# Altium footprint library Terminal_Blocks_Sprint Clamp PCB_5.08mm.PcbLib: 11 footprints
Each footprint in its own frame and in the unit in brackets; x right, y up, seen from the top. Pads: shape width x height; smd on the part's side, far side on the other; paste and mask are expansions set on the pad; w line width, h text height; cw(c..) or ccw(c..) is an arc to the next point about the centre after c.
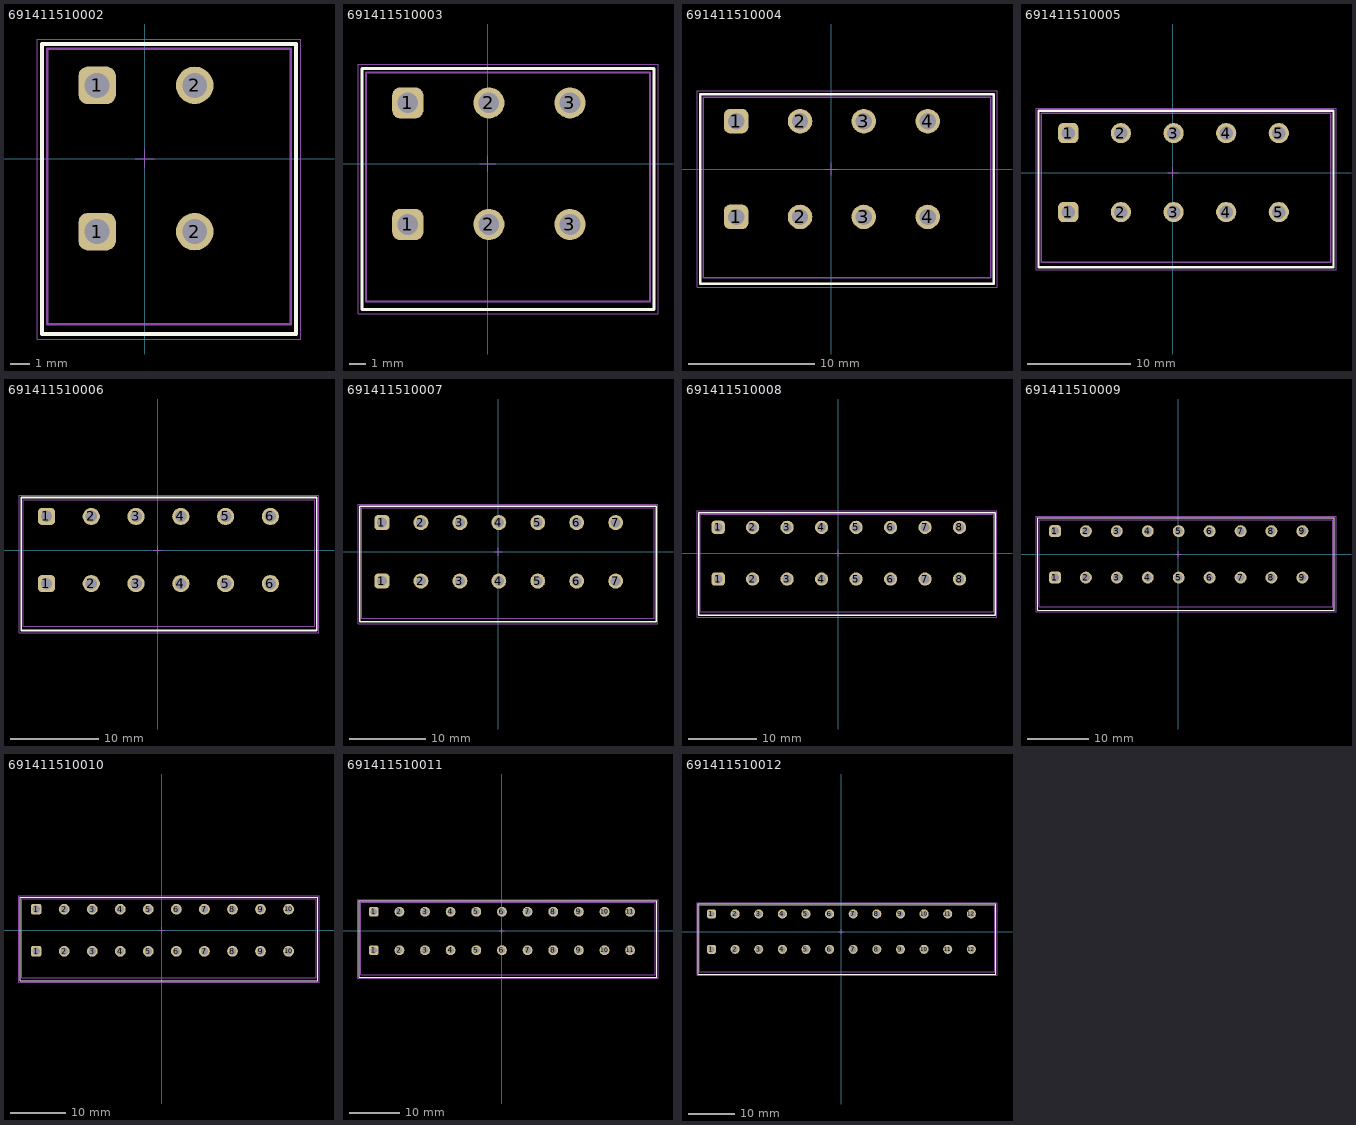
[diagram p0: the footprints below, top view; thin cyan lines are the x and y axes]

## 691411510002 [mm] "5.08 mm Screwless Horizontal Entry, 2p"
height 13.9
pads (4):
  rrect50% 1.95x1.95 hole 1.3: 1(-2.47,-3.81) 1(-2.47,3.81)
  round 1.95 hole 1.3: 2(2.61,-3.81) 2(2.61,3.81)
Top Overlay:
  lines w0.203: -5.334,-9.144 7.874,-9.144 7.874,5.969 -5.334,5.969 -5.334,-9.144
Top Designator:
  text ".Designator" at -7.498,-0.5 h1.5
Top Component Outline:
  lines w0.05: -5.588,-9.398 8.128,-9.398 8.128,6.223 -5.588,6.223 -5.588,-9.398
Top 3D Body:
  lines w0.127: -5.08,-8.636 7.62,-8.636 7.62,5.715 -5.08,5.715 -5.08,-8.636
Top Courtyard:
  lines w0.127: -5.08,-8.636 7.62,-8.636 7.62,5.715 -5.08,5.715 -5.08,-8.636
Top Component Center:
  lines w0.05: -0.5,0 0.5,0 ; 0,-0.5 0,0.5
3D body "db142r-508-2p.stp": height 13.6, standoff -3.5, extent -5.08,-8.637 7.62,5.589

## 691411510003 [mm] "5.08 mm Screwless Horizontal Entry, 3p"
height 13.9
pads (6):
  rrect50% 1.95x1.95 hole 1.3: 1(-5.01,-3.81) 1(-5.01,3.81)
  round 1.95 hole 1.3: 2(0.07,-3.81) 2(0.07,3.81) 3(5.15,-3.81) 3(5.15,3.81)
Top Overlay:
  lines w0.203: -7.874,-9.144 -7.874,5.969 10.414,5.969 10.414,-9.144 -7.874,-9.144
Top Designator:
  text ".Designator" at -7.498,-0.5 h1.5
Top Component Outline:
  lines w0.05: -8.128,-9.398 -8.128,6.223 10.668,6.223 10.668,-9.398 -8.128,-9.398
Top 3D Body:
  lines w0.127: -7.62,-8.636 -7.62,5.715 10.16,5.715 10.16,-8.636 -7.62,-8.636
Top Courtyard:
  lines w0.127: -7.62,-8.636 -7.62,5.715 10.16,5.715 10.16,-8.636 -7.62,-8.636
Top Component Center:
  lines w0.05: -0.5,0 0.5,0 ; 0,-0.5 0,0.5
3D body "db142r-508-3p.stp": height 13.6, standoff -3.5, extent -7.62,-8.637 10.16,5.589

## 691411510004 [mm] "5.08 mm Screwless Horizontal Entry, 4p"
height 13.9
pads (8):
  rrect50% 1.95x1.95 hole 1.3: 1(-7.55,-3.81) 1(-7.55,3.81)
  round 1.95 hole 1.3: 2(-2.47,-3.81) 2(-2.47,3.81) 3(2.61,-3.81) 3(2.61,3.81) 4(7.69,-3.81) 4(7.69,3.81)
Top Overlay:
  lines w0.203: -10.414,-9.144 12.954,-9.144 12.954,5.969 -10.414,5.969 -10.414,-9.144
Top Designator:
  text ".Designator" at -7.498,-0.5 h1.5
Top Component Outline:
  lines w0.05: -10.668,-9.398 13.208,-9.398 13.208,6.223 -10.668,6.223 -10.668,-9.398
Top 3D Body:
  lines w0.127: -10.16,-8.636 12.7,-8.636 12.7,5.715 -10.16,5.715 -10.16,-8.636
Top Courtyard:
  lines w0.127: -10.16,-8.636 12.7,-8.636 12.7,5.715 -10.16,5.715 -10.16,-8.636
Top Component Center:
  lines w0.05: -0.5,0 0.5,0 ; 0,-0.5 0,0.5
3D body "db142r-508-4p.stp": height 13.6, standoff -3.5, extent -10.16,-8.637 12.7,5.589

## 691411510005 [mm] "5.08 mm Screwless Horizontal Entry, 5p"
height 13.9
pads (10):
  rrect50% 1.95x1.95 hole 1.3: 1(-10.09,-3.81) 1(-10.09,3.81)
  round 1.95 hole 1.3: 2(-5.01,-3.81) 2(-5.01,3.81) 3(0.07,-3.81) 3(0.07,3.81) 4(5.15,-3.81) 4(5.15,3.81) 5(10.23,-3.81) 5(10.23,3.81)
Top Overlay:
  lines w0.203: -12.954,-9.144 -12.954,5.969 15.494,5.969 15.494,-9.144 -12.954,-9.144
Top Designator:
  text ".Designator" at -7.498,-0.5 h1.5
Top Component Outline:
  lines w0.05: -13.208,-9.398 -13.208,6.223 15.748,6.223 15.748,-9.398 -13.208,-9.398
Top 3D Body:
  lines w0.127: -12.7,-8.636 -12.7,5.715 15.24,5.715 15.24,-8.636 -12.7,-8.636
Top Courtyard:
  lines w0.127: -12.7,-8.636 -12.7,5.715 15.24,5.715 15.24,-8.636 -12.7,-8.636
Top Component Center:
  lines w0.05: -0.5,0 0.5,0 ; 0,-0.5 0,0.5
3D body "db142r-508-5p.stp": height 13.6, standoff -3.5, extent -12.7,-8.637 15.24,5.589

## 691411510006 [mm] "5.08 mm Screwless Horizontal Entry, 6p"
height 13.9
pads (12):
  rrect50% 1.95x1.95 hole 1.3: 1(-12.63,-3.81) 1(-12.63,3.81)
  round 1.95 hole 1.3: 2(-7.55,-3.81) 2(-7.55,3.81) 3(-2.47,-3.81) 3(-2.47,3.81) 4(2.61,-3.81) 4(2.61,3.81) 5(7.69,-3.81) 5(7.69,3.81) 6(12.77,-3.81) 6(12.77,3.81)
Top Overlay:
  lines w0.203: -15.494,-9.144 -15.494,5.969 18.034,5.969 18.034,-9.144 -15.494,-9.144
Top Designator:
  text ".Designator" at -7.498,-0.5 h1.5
Top Component Outline:
  lines w0.05: -15.748,-9.398 -15.748,6.223 18.288,6.223 18.288,-9.398 -15.748,-9.398
Top 3D Body:
  lines w0.127: -15.24,-8.636 -15.24,5.715 17.78,5.715 17.78,-8.636 -15.24,-8.636
Top Courtyard:
  lines w0.127: -15.24,-8.636 -15.24,5.715 17.78,5.715 17.78,-8.636 -15.24,-8.636
Top Component Center:
  lines w0.05: -0.5,0 0.5,0 ; 0,-0.5 0,0.5
3D body "db142r-508-6p.stp": height 13.6, standoff -3.5, extent -15.24,-8.637 17.78,5.589

## 691411510007 [mm] "5.08 mm Screwless Horizontal Entry, 7p"
height 13.9
pads (14):
  rrect50% 1.95x1.95 hole 1.3: 1(-15.17,-3.81) 1(-15.17,3.81)
  round 1.95 hole 1.3: 2(-10.09,-3.81) 2(-10.09,3.81) 3(-5.01,-3.81) 3(-5.01,3.81) 4(0.07,-3.81) 4(0.07,3.81) 5(5.15,-3.81) 5(5.15,3.81) 6(10.23,-3.81) 6(10.23,3.81) 7(15.31,-3.81) 7(15.31,3.81)
Top Overlay:
  lines w0.203: -18.034,-9.144 -18.034,5.969 20.574,5.969 20.574,-9.144 -18.034,-9.144
Top Designator:
  text ".Designator" at -7.498,-0.5 h1.5
Top Component Outline:
  lines w0.05: -18.288,-9.398 -18.288,6.223 20.828,6.223 20.828,-9.398 -18.288,-9.398
Top 3D Body:
  lines w0.127: -17.78,-8.636 -17.78,5.715 20.32,5.715 20.32,-8.636 -17.78,-8.636
Top Courtyard:
  lines w0.127: -17.78,-8.636 -17.78,5.715 20.32,5.715 20.32,-8.636 -17.78,-8.636
Top Component Center:
  lines w0.05: -0.5,0 0.5,0 ; 0,-0.5 0,0.5
3D body "db142r-508-7p.stp": height 13.6, standoff -3.5, extent -17.78,-8.637 20.32,5.589

## 691411510008 [mm] "5.08 mm Screwless Horizontal Entry, 8p"
height 13.9
pads (16):
  rrect50% 1.95x1.95 hole 1.3: 1(-17.71,-3.81) 1(-17.71,3.81)
  round 1.95 hole 1.3: 2(-12.63,-3.81) 2(-12.63,3.81) 3(-7.55,-3.81) 3(-7.55,3.81) 4(-2.47,-3.81) 4(-2.47,3.81) 5(2.61,-3.81) 5(2.61,3.81) 6(7.69,-3.81) 6(7.69,3.81) 7(12.77,-3.81) 7(12.77,3.81) 8(17.85,-3.81) 8(17.85,3.81)
Top Overlay:
  lines w0.203: -20.574,-9.144 -20.574,5.969 23.114,5.969 23.114,-9.144 -20.574,-9.144
Top Designator:
  text ".Designator" at -7.498,-0.5 h1.5
Top Component Outline:
  lines w0.05: -20.828,-9.398 -20.828,6.223 23.368,6.223 23.368,-9.398 -20.828,-9.398
Top 3D Body:
  lines w0.127: -20.32,-8.636 -20.32,5.715 22.86,5.715 22.86,-8.636 -20.32,-8.636
Top Courtyard:
  lines w0.127: -20.32,-8.636 -20.32,5.715 22.86,5.715 22.86,-8.636 -20.32,-8.636
Top Component Center:
  lines w0.05: -0.5,0 0.5,0 ; 0,-0.5 0,0.5
3D body "db142r-508-8p.stp": height 13.6, standoff -3.5, extent -20.32,-8.637 22.86,5.589

## 691411510009 [mm] "5.08 mm Screwless Horizontal Entry, 9p"
height 13.9
pads (18):
  rrect50% 1.95x1.95 hole 1.3: 1(-20.25,-3.81) 1(-20.25,3.81)
  round 1.95 hole 1.3: 2(-15.17,-3.81) 2(-15.17,3.81) 3(-10.09,-3.81) 3(-10.09,3.81) 4(-5.01,-3.81) 4(-5.01,3.81) 5(0.07,-3.81) 5(0.07,3.81) 6(5.15,-3.81) 6(5.15,3.81) 7(10.23,-3.81) 7(10.23,3.81) 8(15.31,-3.81) 8(15.31,3.81) 9(20.39,-3.81) 9(20.39,3.81)
Top Overlay:
  lines w0.203: -23.114,-9.144 25.654,-9.144 25.654,5.969 -23.114,5.969 -23.114,-9.144
Top Designator:
  text ".Designator" at -7.498,-0.5 h1.5
Top Component Outline:
  lines w0.05: -23.368,-9.398 25.908,-9.398 25.908,6.223 -23.368,6.223 -23.368,-9.398
Top 3D Body:
  lines w0.127: -22.86,-8.636 25.4,-8.636 25.4,5.715 -22.86,5.715 -22.86,-8.636
Top Courtyard:
  lines w0.127: -22.86,-8.636 25.4,-8.636 25.4,5.715 -22.86,5.715 -22.86,-8.636
Top Component Center:
  lines w0.05: -0.5,0 0.5,0 ; 0,-0.5 0,0.5
3D body "db142r-508-9p.stp": height 13.6, standoff -3.5, extent -22.86,-8.637 25.4,5.589

## 691411510010 [mm] "5.08 mm Screwless Horizontal Entry, 10p"
height 13.9
pads (20):
  rrect50% 1.95x1.95 hole 1.3: 1(-22.79,-3.81) 1(-22.79,3.81)
  round 1.95 hole 1.3: 2(-17.71,-3.81) 2(-17.71,3.81) 3(-12.63,-3.81) 3(-12.63,3.81) 4(-7.55,-3.81) 4(-7.55,3.81) 5(-2.47,-3.81) 5(-2.47,3.81) 6(2.61,-3.81) 6(2.61,3.81) 7(7.69,-3.81) 7(7.69,3.81) 8(12.77,-3.81) 8(12.77,3.81) 9(17.85,-3.81) 9(17.85,3.81) 10(22.93,-3.81) 10(22.93,3.81)
Top Overlay:
  lines w0.203: -25.654,-9.144 -25.654,5.969 28.194,5.969 28.194,-9.144 -25.654,-9.144
Top Designator:
  text ".Designator" at -7.498,-0.5 h1.5
Top Component Outline:
  lines w0.05: -25.908,-9.398 -25.908,6.223 28.448,6.223 28.448,-9.398 -25.908,-9.398
Top 3D Body:
  lines w0.127: -25.4,-8.636 -25.4,5.715 27.94,5.715 27.94,-8.636 -25.4,-8.636
Top Courtyard:
  lines w0.127: -25.4,-8.636 -25.4,5.715 27.94,5.715 27.94,-8.636 -25.4,-8.636
Top Component Center:
  lines w0.05: -0.5,0 0.5,0 ; 0,-0.5 0,0.5
3D body "db142r-508-10p.stp": height 13.6, standoff -3.5, extent -25.4,-8.637 27.94,5.589

## 691411510011 [mm] "5.08 mm Screwless Horizontal Entry, 11p"
height 13.9
pads (22):
  rrect50% 1.95x1.95 hole 1.3: 1(-25.33,-3.81) 1(-25.33,3.81)
  round 1.95 hole 1.3: 2(-20.25,-3.81) 2(-20.25,3.81) 3(-15.17,-3.81) 3(-15.17,3.81) 4(-10.09,-3.81) 4(-10.09,3.81) 5(-5.01,-3.81) 5(-5.01,3.81) 6(0.07,-3.81) 6(0.07,3.81) 7(5.15,-3.81) 7(5.15,3.81) 8(10.23,-3.81) 8(10.23,3.81) 9(15.31,-3.81) 9(15.31,3.81) 10(20.39,-3.81) 10(20.39,3.81) 11(25.47,-3.81) 11(25.47,3.81)
Top Overlay:
  lines w0.203: -28.194,-9.144 -28.194,5.969 30.734,5.969 30.734,-9.144 -28.194,-9.144
Top Designator:
  text ".Designator" at -7.498,-0.5 h1.5
Top Component Outline:
  lines w0.05: -28.448,-9.398 -28.448,6.223 30.988,6.223 30.988,-9.398 -28.448,-9.398
Top 3D Body:
  lines w0.127: -27.94,-8.636 -27.94,5.715 30.48,5.715 30.48,-8.636 -27.94,-8.636
Top Courtyard:
  lines w0.127: -27.94,-8.636 -27.94,5.715 30.48,5.715 30.48,-8.636 -27.94,-8.636
Top Component Center:
  lines w0.05: -0.5,0 0.5,0 ; 0,-0.5 0,0.5
3D body "db142r-508-11p.stp": height 13.6, standoff -3.5, extent -27.94,-8.637 30.48,5.589

## 691411510012 [mm] "5.08 mm Screwless Horizontal Entry, 12p"
height 13.9
pads (24):
  rrect50% 1.95x1.95 hole 1.3: 1(-27.87,-3.81) 1(-27.87,3.81)
  round 1.95 hole 1.3: 2(-22.79,-3.81) 2(-22.79,3.81) 3(-17.71,-3.81) 3(-17.71,3.81) 4(-12.63,-3.81) 4(-12.63,3.81) 5(-7.55,-3.81) 5(-7.55,3.81) 6(-2.47,-3.81) 6(-2.47,3.81) 7(2.61,-3.81) 7(2.61,3.81) 8(7.69,-3.81) 8(7.69,3.81) 9(12.77,-3.81) 9(12.77,3.81) 10(17.85,-3.81) 10(17.85,3.81) 11(22.93,-3.81) 11(22.93,3.81) 12(28.01,-3.81) 12(28.01,3.81)
Top Overlay:
  lines w0.203: -30.734,-9.144 -30.734,5.969 33.274,5.969 33.274,-9.144 -30.734,-9.144
Top Designator:
  text ".Designator" at -7.498,-0.5 h1.5
Top Component Outline:
  lines w0.05: -30.988,-9.398 -30.988,6.223 33.528,6.223 33.528,-9.398 -30.988,-9.398
Top 3D Body:
  lines w0.127: -30.48,-8.636 -30.48,5.715 33.02,5.715 33.02,-8.636 -30.48,-8.636
Top Courtyard:
  lines w0.127: -30.48,-8.636 -30.48,5.715 33.02,5.715 33.02,-8.636 -30.48,-8.636
Top Component Center:
  lines w0.05: -0.5,0 0.5,0 ; 0,-0.5 0,0.5
3D body "db142r-508-12p.stp": height 13.6, standoff -3.5, extent -30.48,-8.637 33.02,5.589